# Altium footprint library STM32F4.PcbLib: 40 footprints (part 3 of 3)
Each footprint in its own frame and in the unit in brackets; x right, y up, seen from the top. Pads: shape width x height; smd on the part's side, far side on the other; paste and mask are expansions set on the pad; w line width, h text height; cw(c..) or ccw(c..) is an arc to the next point about the centre after c.
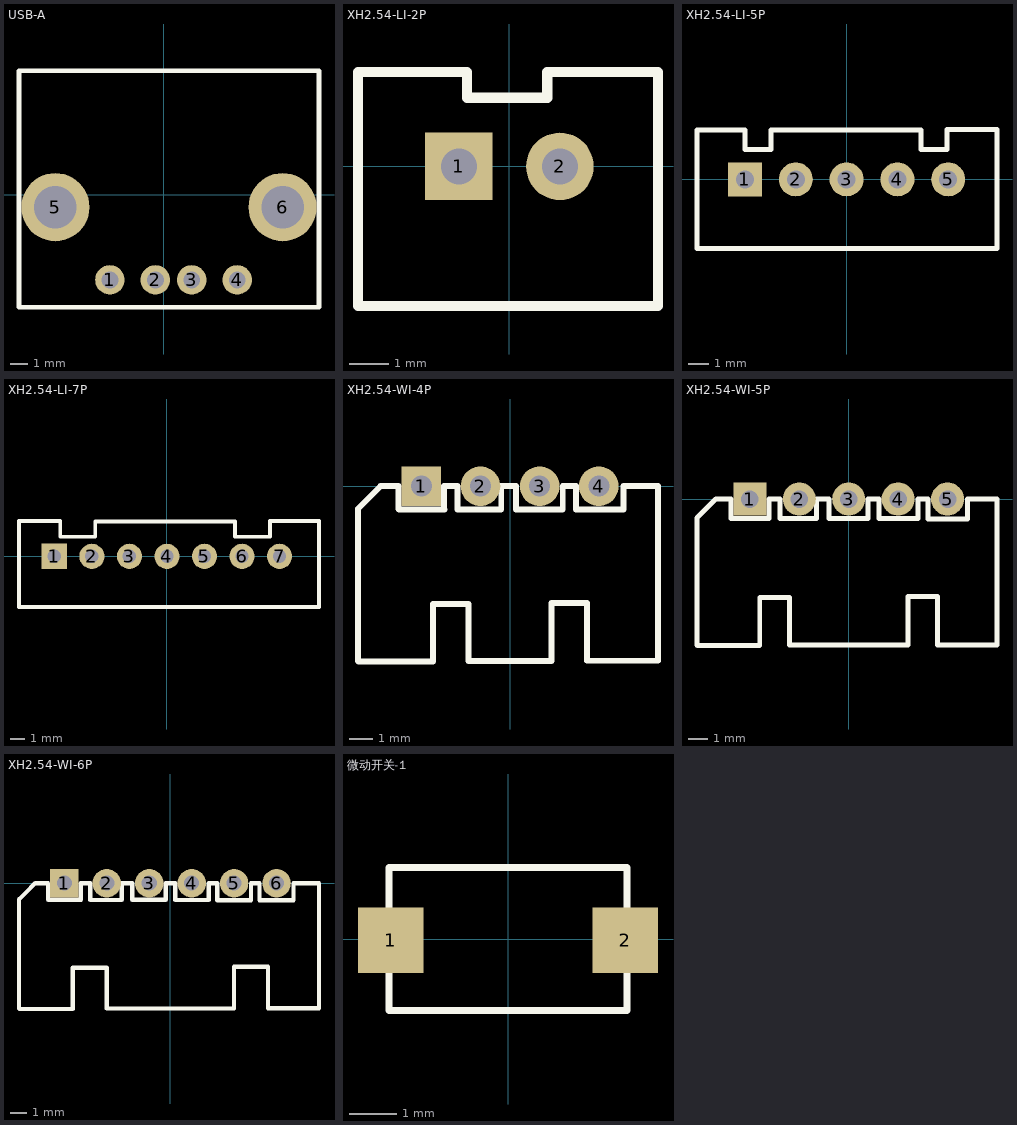
[diagram p2: the footprints below, top view; thin cyan lines are the x and y axes]

## USB-A [mil]
pads (6):
  round 65 hole 37: 1(-118.78,-187.11) 2(-18.78,-187.11) 3(61.22,-187.11) 4(161.22,-187.11)
  round 150 hole 93: 5(-238.78,-27.11) 6(261.22,-27.11)
Top Overlay:
  lines w10: -318.78,-247.11 181.22,-247.11 341.22,-247.11 341.22,272.89 -318.78,272.89 -318.78,-247.11
3D body "Samtec-USB-A-S-F-B-TH.STEP": height 309.06, standoff -121.01, extent -292.01,-217.56 330,337.56

## XH2.54-LI-2P [mm] "接插件，2P"
pads (2):
  rect 1.7x1.7 hole 0.9: 1(-1.27,0)
  round 1.7 hole 0.9: 2(1.27,0)
Top Overlay:
  lines w0.254: -3.807,-3.505 3.736,-3.505 3.736,2.37 2.954,2.37 0.953,2.37 0.953,1.727 -1.067,1.727 -1.067,2.37 -3.807,2.37 -3.807,-3.505
3D body "XH2.54-2P.STEP": height 7.05, standoff -2.45, extent -3.77,-3.3 3.77,2.4

## XH2.54-LI-5P [mm] "接插件，5P"
pads (5):
  rect 1.7x1.7 hole 0.9: 1(-5.08,0)
  round 1.7 hole 0.9: 2(-2.54,0) 3(0,0) 4(2.54,0) 5(5.08,0)
Top Overlay:
  lines w0.254: -3.78,2.438 -3.78,1.5 -5.08,1.5 -5.08,2.464 -7.48,2.464 -7.48,-3.454 7.52,-3.454 7.52,2.489 5.02,2.489 5.02,1.5 3.72,1.5 3.72,2.464 -3.78,2.464
3D body "XH2.54-5P.STEP": height 7.03, standoff -2.47, extent -7.58,-3.3 7.58,2.4

## XH2.54-LI-7P [mm] "接插件，7P"
pads (7):
  rect 1.7x1.7 hole 0.9: 1(-7.62,0)
  round 1.7 hole 0.9: 2(-5.08,0) 3(-2.54,0) 4(0,0) 5(2.54,0) 6(5.08,0) 7(7.62,0)
Top Overlay:
  lines w0.254: -10.008,-3.429 7.29,-3.429 10.287,-3.429 10.287,2.388 6.974,2.388 6.974,1.321 4.611,1.321 4.611,2.362 2.286,2.362 -4.851,2.362 -4.851,1.321 -7.214,1.321 -7.214,2.388 -10.008,2.388 -10.008,-3.429
3D body "XH2.54-7P.STEP": height 7.05, standoff -2.45, extent -10.12,-3.302 10.12,2.398

## XH2.54-WI-4P [mm] "接插件，4P"
pads (4):
  rect 1.7x1.7 hole 0.9: 1(-3.81,0)
  round 1.7 hole 0.9: 2(-1.27,0) 3(1.27,0) 4(3.81,0)
Top Overlay:
  lines w0.254: -0.376,0 -0.376,-0.988 -0.39,-1.002 -2.256,-1.002 -2.256,0 -2.828,0 -2.828,-0.982 -2.814,-0.996 -4.77,-0.996 -4.784,-0.982 -4.784,0 -5.56,0 -6.142,-0.582 -6.526,-0.966 -6.526,-7.502 -6.5,-7.528 -3.302,-7.528 -3.302,-5.058 -1.778,-5.058 -1.778,-7.502 1.778,-7.502 1.778,-5.006 3.302,-5.006 3.302,-7.49 6.35,-7.49 6.35,0 4.916,0 ; -0.364,0 0.234,0 ; 0.248,-0.996 0.248,0 ; 0.268,-0.996 2.256,-0.996 2.262,-0.99 2.262,0 2.808,0 ; 2.822,0 2.822,-1.002 4.876,-1.002 ; 4.876,-0.976 4.876,0
3D body "XH2.54-4P_H.STEP": height 5.73, standoff -3.37, extent -6.31,-7.35 6.31,0.35

## XH2.54-WI-5P [mm] "接插件，5P"
pads (5):
  rect 1.7x1.7 hole 0.9: 1(-5.08,0)
  round 1.7 hole 0.9: 2(-2.54,0) 3(0,0) 4(2.54,0) 5(5.08,0)
Top Overlay:
  lines w0.254: -1.646,0 -1.646,-0.988 -1.66,-1.002 -3.526,-1.002 -3.526,0 -4.098,0 -4.098,-0.982 -4.084,-0.996 -6.04,-0.996 -6.054,-0.982 -6.054,0 -6.83,0 -7.412,-0.582 -7.796,-0.966 -7.796,-7.502 -7.77,-7.528 -4.572,-7.528 -4.572,-5.058 -3.048,-5.058 -3.048,-7.502 3.048,-7.502 3.048,-5.006 4.572,-5.006 4.572,-7.49 7.62,-7.49 7.62,0 6.096,0 6.096,-1.016 4.064,-1.016 4.064,0 3.556,0 3.556,-1.002 1.552,-1.002 1.552,0 ; -1.634,0 -1.036,0 ; -1.022,-0.996 -1.022,0 ; -1.002,-0.996 0.986,-0.996 0.992,-0.99 0.992,0 1.538,0
3D body "XH2.54-5P_H.STEP": height 5.73, standoff -3.37, extent -7.58,-7.35 7.58,0.35

## XH2.54-WI-6P [mm] "接插件，6P"
pads (6):
  rect 1.7x1.7 hole 0.9: 1(-6.35,0)
  round 1.7 hole 0.9: 2(-3.81,0) 3(-1.27,0) 4(1.27,0) 5(3.81,0) 6(6.35,0)
Top Overlay:
  lines w0.254: -2.916,0 -2.916,-0.988 -2.93,-1.002 -4.796,-1.002 -4.796,0 -5.368,0 -5.368,-0.982 -5.354,-0.996 -7.31,-0.996 -7.324,-0.982 -7.324,0 -8.1,0 -8.682,-0.582 -9.066,-0.966 -9.066,-7.502 -9.04,-7.528 -5.842,-7.528 -5.842,-5.058 -3.81,-5.058 -3.81,-7.502 3.81,-7.502 3.81,-5.006 5.842,-5.006 5.842,-7.49 8.89,-7.49 8.89,0 7.366,0 7.366,-1.016 5.334,-1.016 5.334,0 4.826,0 4.826,-1.016 2.794,-1.016 2.794,0 2.286,0 2.286,-1.002 0.282,-1.002 0.282,0 ; -2.904,0 -2.306,0 ; -2.292,-0.996 -2.292,0 ; -2.272,-0.996 -0.284,-0.996 -0.278,-0.99 -0.278,0 0.268,0
3D body "XH2.54-6P_H.STEP": height 5.75, standoff -3.35, extent -8.85,-7.35 8.85,0.35

## 微动开关-1 [mm]
pads (2):
  rect 1.4x1.4 / inner round 0 / far side round 0 all layers, no hole: 1(-2.5,-0.024) 2(2.5,-0.024)
Top Overlay:
  lines w0.15: -2.54,-1.524 2.54,-1.524 2.54,1.524 -2.54,1.524 -2.54,-1.524
3D body "SW-PB 3X4.STEP": height 2.1, standoff -0.05, extent -2.5,-1.524 2.5,1.476